# EAGLE library part AD820N (library FreeSmartEEG)
Single-Supply, Rail-to-Rail, Low Power, FET Input Op Amp Source: http://www.analog.com/static/imported-files/data_sheets/AD820.pdf
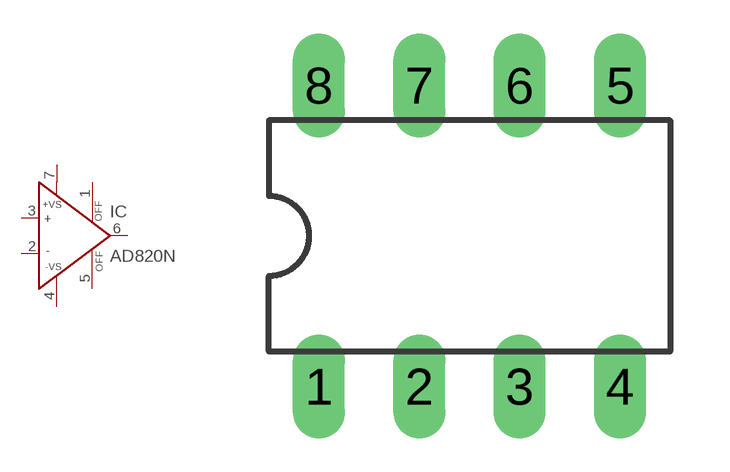
[diagram p105: symbol with the pads of DIL08; footprint DIL08]

Designator prefix IC

## AD820N (OC_FARNELL: 1438579; OC_NEWARK: unknown)  [DIL08]
1  OFF  pas
2  IN-  in
3  IN+  in
4  -VS  in
5  OFF  pas
6  OUT  out
7  +VS  in

## Footprint DIL08 (pad centres in mm)
Dual In Line Package
drill 0.813 long: 1 -3.81,-3.81; 2 -1.27,-3.81; 3 1.27,-3.81; 4 3.81,-3.81; 5 3.81,3.81; 6 1.27,3.81; 7 -1.27,3.81; 8 -3.81,3.81